# Altium schematic symbol library national-opamp.SchLib: 1 symbol
Pins are listed as number, name and electrical type; pins without a type are passive.

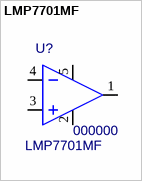
[diagram p0: symbol LMP7701MF]

## LMP7701MF
designator U?, comment 000000  value LMP7701MF
Precision, CMOS Input, RRIO, Wide Supply Range  Amplifiers; MF: National; Package: SOT23-5; PN: 000000; ExtraInfo: *
footprint SOT23-5 (SOT23, 5-Leads, Body 3.0x3.0mm (max), Pitch 0.95mm, IPC High Density)
simulation model LMP7701
footprint SOT23-5 (SOT23, 5-Leads, Body 3.0x3.0mm (max), Pitch 0.95mm, IPC High Density)
pins: 1 OUT, 2 V-, 3 IN+, 4 IN- (power), 5 V+ (power)